# Altium footprint library pcblib_by_wjy.PcbLib: 111 footprints (part 3 of 7)
Each footprint in its own frame and in the unit in brackets; x right, y up, seen from the top. Pads: shape width x height; smd on the part's side, far side on the other; paste and mask are expansions set on the pad; w line width, h text height; cw(c..) or ccw(c..) is an arc to the next point about the centre after c.
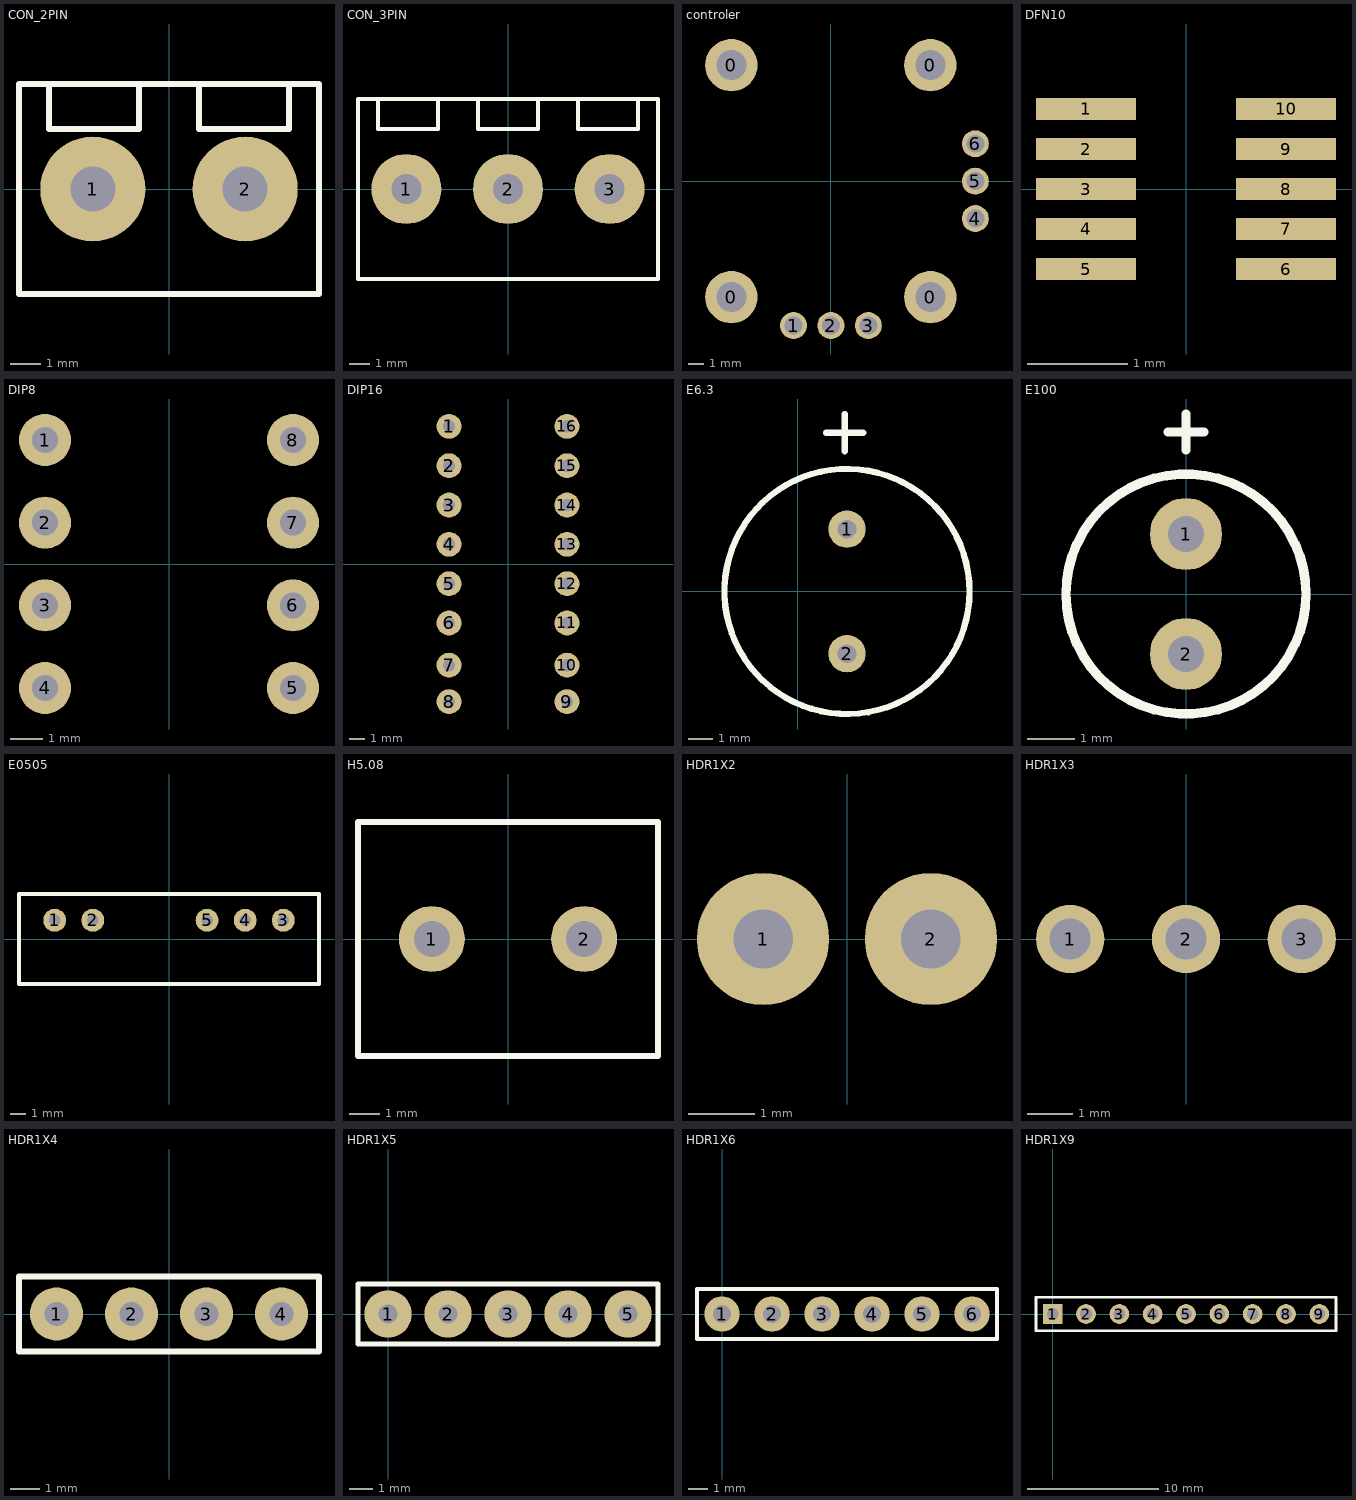
[diagram p2: the footprints below, top view; thin cyan lines are the x and y axes]

## CON_2PIN [mm]
pads (2):
  round 3.5 hole 1.5: 1(-2.54,0) 2(2.54,0)
Top Overlay:
  lines w0.2: -4,3.5 -4,2 -1,2 -1,3.5 ; 1,3.5 1,2 4,2 4,3.5 ; -5,-3.5 -5,3.5 5,3.5 5,-3.5 -5,-3.5

## CON_3PIN [mm]
pads (3):
  round 3.5 hole 1.5: 1(-5.08,0) 2(0,0) 3(5.08,0)
Top Overlay:
  lines w0.2: -6.5,4.5 -6.5,3 -3.5,3 -3.5,4.5 ; -1.5,4.5 -1.5,3 1.5,3 1.5,4.5 ; 3.5,4.5 3.5,3 6.5,3 6.5,4.5 ; -7.5,-4.5 7.5,-4.5 7.5,4.5 -7.5,4.5 -7.5,-4.5

## controler [mm]
pads (10):
  round 3.5 hole 2: 0(-6.65,-7.75) 0(-6.65,7.75) 0(6.65,-7.75) 0(6.65,7.75)
  round 1.8 hole 1.2: 1(-2.5,-9.65) 2(0,-9.65) 3(2.5,-9.65) 4(9.65,-2.5) 5(9.65,0) 6(9.65,2.5)

## DFN10 [mm]
pads (10):
  rect 1x0.22 smd: 1(-1,0.8) 2(-1,0.4) 3(-1,0) 4(-1,-0.4) 5(-1,-0.8) 6(1,-0.8) 7(1,-0.4) 8(1,0) 9(1,0.4) 10(1,0.8)

## DIP8 [mm]
pads (8):
  round 1.6 hole 0.8: 1(-3.81,3.81) 2(-3.81,1.27) 3(-3.81,-1.27) 4(-3.81,-3.81) 5(3.81,-3.81) 6(3.81,-1.27) 7(3.81,1.27) 8(3.81,3.81)

## DIP16 [mm]
pads (16):
  round 1.6 hole 0.8: 1(-3.81,8.89) 2(-3.81,6.35) 3(-3.81,3.81) 4(-3.81,1.27) 5(-3.81,-1.27) 6(-3.81,-3.81) 7(-3.81,-6.53) 8(-3.81,-8.89) 9(3.81,-8.89) 10(3.81,-6.53) 11(3.81,-3.81) 12(3.81,-1.27) 13(3.81,1.27) 14(3.81,3.81) 15(3.81,6.35) 16(3.81,8.89)

## E6.3 [mil]
pads (2):
  round 60 hole 30: 1(78.74,100) 2(78.74,-100)
Top Overlay:
  circle w10: c78.74,0 r196.85
  lines w10: 45,255 105,255 ; 75,225 75,285

## E100 [mil]
pads (2):
  round 60 hole 30: 1(0,50) 2(0,-50)
Top Overlay:
  circle w7.87: c0,0 r100
  lines w7.87: -15,135 15,135 ; 0,120 0,150

## E0505 [mil]
pads (5):
  round 60 hole 30: 1(-300,49.21) 2(-200,49.21) 3(300,49.21) 4(200,49.21) 5(100,49.21)
Top Overlay:
  lines w10: -393.7,-118.11 -393.7,118.11 393.7,118.11 393.7,-118.11 -393.7,-118.11

## H5.08 [mm] "Indicating Instrument; 2 Leads"
pads (2):
  round 2.2 hole 1.2: 1(-2.54,0) 2(2.54,0)
Top Overlay:
  lines w0.2: -5,-3.9 5,-3.9 5,3.9 -5,3.9 -5,-3.9

## HDR1X2 [mm] "Connector; Header; 2 Position"
pads (2):
  round 2 hole 0.9: 1(-1.27,0) 2(1.27,0)

## HDR1X3 [mm] "Connector; Header; 3 Position"
pads (3):
  round 1.5 hole 0.9: 1(-2.54,0) 2(0,0) 3(2.54,0)

## HDR1X4 [mm] "Connector; Header; 4 Position"
pads (4):
  round 1.8 hole 0.81: 1(-3.81,0) 2(-1.27,0) 3(1.27,0) 4(3.81,0)
Top Overlay:
  lines w0.2: -5.08,-1.27 -5.08,1.27 5.08,1.27 5.08,-1.27 -5.08,-1.27

## HDR1X5 [mm] "Connector; Header; 5 Position"
pads (5):
  round 2 hole 0.81: 1(0,0) 2(2.54,0) 3(5.08,0) 4(7.62,0) 5(10.16,0)
Top Overlay:
  lines w0.2: -1.27,-1.27 11.43,-1.27 11.43,1.27 -1.27,1.27 -1.27,-1.27

## HDR1X6 [mm] "Connector; Header; 6 Position"
pads (6):
  round 1.8 hole 0.9: 1(0,0) 2(2.54,0) 3(5.08,0) 4(7.62,0) 5(10.16,0) 6(12.7,0)
Top Overlay:
  lines w0.2: -1.27,-1.27 -1.27,1.27 13.97,1.27 13.97,-1.27 -1.27,-1.27

## HDR1X9 [mm] "Connector; Header; 9 Position"
pads (9):
  rect 1.5x1.5 hole 0.9: 1(0,0)
  round 1.5 hole 0.9: 2(2.54,0) 3(5.08,0) 4(7.62,0) 5(10.16,0) 6(12.7,0) 7(15.24,0) 8(17.78,0) 9(20.32,0)
Top Overlay:
  lines w0.2: -1.27,-1.27 -1.27,1.27 21.59,1.27 21.59,-1.27 -1.27,-1.27